# EAGLE library part MURATA_ELECTRONICS-RF_FILTER-LFD21868MMF1D386 (library Module_ICs)
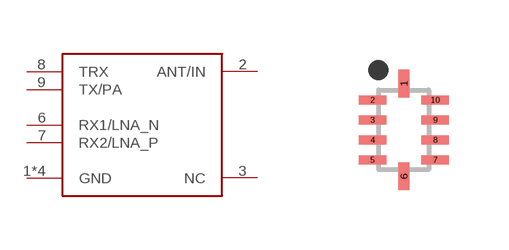
[diagram p42: symbol with the pads of MURATA_ELECTRONICS-RF_FILTER-LFD21868MMF1D386; footprint MURATA_ELECTRONICS-RF_FILTER-LFD21868MMF1D386]

Designator prefix U

## MURATA_ELECTRONICS-RF_FILTER-LFD21868MMF1D386  [MURATA_ELECTRONICS-RF_FILTER-LFD21868MMF1D386]
1  GND
2  ANT/IN
3  NC
4  GND
5  GND
6  RX1/LNA_N
7  RX2/LNA_P
8  TRX
9  TX/PA
10  GND

## Footprint MURATA_ELECTRONICS-RF_FILTER-LFD21868MMF1D386 (pad centres in mm)
10-Chiparray 4-Side Flat, 0.50 mm pitch, 2.00 X 1.25 X 0.70 mm body 10-pin Chiparray 4-Side Flat package with 0.50 mm pitch with body size 2.00 X 1.25 X 0.70 mm
smd 0.272 x 0.692: 1 0,1.16; 6 0,-1.16
smd 0.692 x 0.222: 2 -0.785,0.75; 3 -0.785,0.25; 4 -0.785,-0.25; 5 -0.785,-0.75; 7 0.785,-0.75; 8 0.785,-0.25; 9 0.785,0.25; 10 0.785,0.75